# Altium schematic symbol library optoacoplador.SchLib: 1 symbol
Pins are listed as number, name and electrical type; pins without a type are passive.

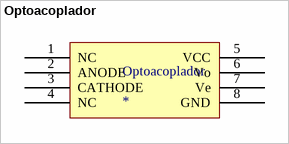
[diagram p0: symbol Optoacoplador]

## Optoacoplador
designator Optoacoplador
footprint DIP8
pins: 1 NC, 2 ANODE, 3 CATHODE, 4 NC, 5 VCC, 6 Vo, 7 Ve, 8 GND